# EAGLE library part 691137910006 (library WR-TBL Wire Protector)
WR-TBL Serie 1379 - 7.50 mm Horizontal Cable Entry w. Pressure Clamp KIND PROPERTIES Pitch 7.5 mm MATERIAL PROPERTIES Insulator Material PA6/66 Insulator Flammability Rating UL94 V-0 Insulator Color Green Contact Material Copper Alloy Contact Plating Nickel over Tin Contact Type Stamped Terminal Screw Material Steel Terminal Screw Plating Zinc Wire Guard Material Copper Alloy GENERAL INFORMATION Operating Temperature -30 up to +120 °C Compliance Lead free / RoHS ELECTRICAL PROPERTIES IR UL 16 A IR VDE 24 A Working Voltage [UL] 300 V (AC) Working Voltage [VDE] 750 V (AC) Withstanding Voltage [UL] 1600 V (AC) Withstanding Voltage [cULus] 3000 V (AC) Withstanding Voltage [VDE] 3000 V (AC) Contact Resistance 20 mΩ Contact Resistance [UL] 20 mΩ Contact Resistance [VDE] 20 mΩ MECHANICAL PROPERTIES Wire Strip Length 6 (mm) Screw M2.5 Solid Wire Section (AWG) 30 to 12 (AWG) Solid Wire Section (Metric) 0.05 to 3.31 (mm²) Stranded Wire Section (AWG) 30 to 12 (AWG) Stranded Wire Section (Metric) 0.05 to 3.31 (mm²) CERTIFICATION UL Approval E150931 CAT N: MRT12 (7) VDE Approval 40021397 VDE Approval 40021397 TYPE: MRT12 PACKAGING PROPERTIES Packaging Box <https://katalog.we-online.com/media/images/v2/o32803v209%20Family_WR-TBL1_Series1379.jpg> Details see: https://katalog.we-online.com/en/em/TBL_7_50_1379_HORIZONTAL_ENTRY_W_PRESSURE_CLAMP_69113791000x Updated by Ella Wu 2019-11-11 2019(C) Wurth Elektronik
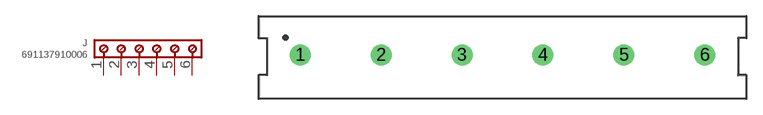
[diagram p49: symbol with the pads of 691137910006; footprint 691137910006]

Designator prefix J

## 691137910006 (DATASHEET-URL: https://www.we-online.com/catalog/datasheet/691137910006.pdf; IR-UL: 16A; IR-VDE: 24A; MOUNT: THT; PART-NUMBER: 691137910006; PINS: 6; PITCH: 7.5mm; TYPE: Horizontal; VALUE: 691137910006; WIRE: 30 to 12 (AWG) 0.05 to 3.31 (mm²); WORKING-VOLTAGE-UL: 300V(AC); WORKING-VOLTAGE-VDE: 750V(AC))  [691137910006]
1  1  pas
2  2  pas
3  3  pas
4  4  pas
5  5  pas
6  6  pas

## Footprint 691137910006 (pad centres in mm)
WR-TBL Serie 1379 - 7.50 mm Horizontal Cable Entry w. Pressure Clamp Max Height = 11.5mm , Pitch 7.5mm , 6 Pins
drill 1.3: 1 -18.75,0; 2 -11.25,0; 3 -3.75,0; 4 3.75,0; 5 11.25,0; 6 18.75,0